# Altium footprint library CSD18543Q3A.PcbLib: 1 footprints
Each footprint in its own frame and in the unit in brackets; x right, y up, seen from the top. Pads: shape width x height; smd on the part's side, far side on the other; paste and mask are expansions set on the pad; w line width, h text height; cw(c..) or ccw(c..) is an arc to the next point about the centre after c.
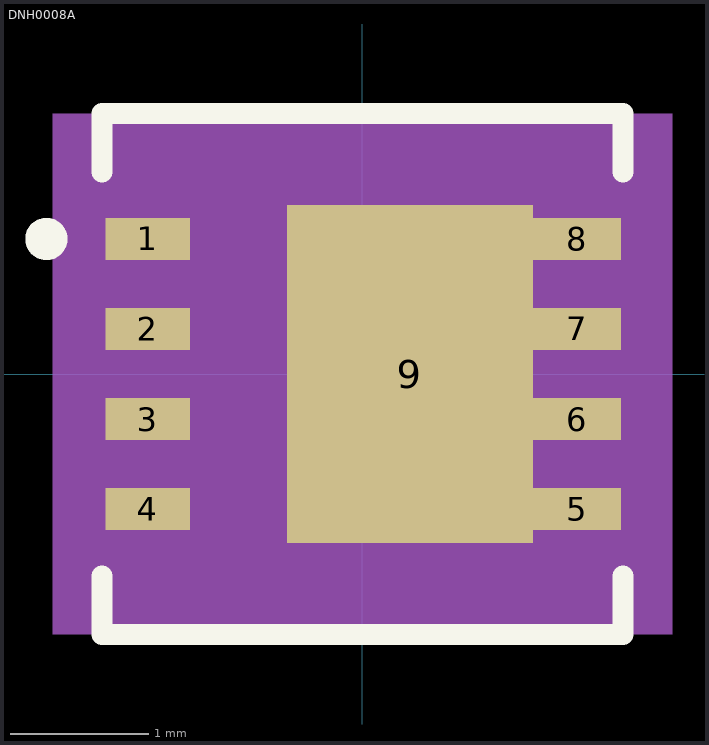
[diagram p0: the footprint, top view; thin cyan lines are the x and y axes]

## DNH0008A [mm]
pads (9):
  rect 0.61x0.305 smd paste-0.152: 1(-1.55,0.975) 2(-1.55,0.325) 3(-1.55,-0.325) 4(-1.55,-0.975)
  rect 0.635x0.305 smd paste+0 mask+0: 5(1.55,-0.975) 6(1.55,-0.325) 7(1.55,0.325) 8(1.55,0.975)
  rect 1.778x2.438 smd paste-1.206 mask-1.206: 9(0.343,0)
Top Layer:
  region: 0,1.219
  region: 0,-1.219
  region: 0,1.219
  region: 0,-1.219
Top Overlay:
  circle w0.152: c-2.281,0.975 r0.076
  circle w0.152: c-2.281,0.975 r0.076
  lines w0.152: -1.88,-1.88 1.88,-1.88 ; -1.88,-1.88 -1.88,-1.459 -1.88,-1.88 ; -1.88,-1.88 1.88,-1.88 ; -1.88,1.88 1.88,1.88 ; -1.88,1.88 -1.88,1.459 -1.88,1.88 ; -1.88,1.88 1.88,1.88 ; 1.88,-1.88 1.88,-1.459 1.88,-1.88 ; 1.88,1.88 1.88,1.459 1.88,1.88
Top Paste:
  drawing of 20 lines, arcs and shapes, not listed
Top Solder:
  region: -1.245,1.127 -1.855,1.127 -1.855,0.823 -1.245,0.823
  region: -1.245,0.477 -1.855,0.477 -1.855,0.173 -1.245,0.173
  region: -1.245,-0.173 -1.855,-0.173 -1.855,-0.477 -1.245,-0.477
  region: -1.245,-0.823 -1.855,-0.823 -1.855,-1.127 -1.245,-1.127
  region: 1.855,-0.823 1.245,-0.823 1.245,-1.127 1.855,-1.127
  region: 1.855,-0.173 1.245,-0.173 1.245,-0.477 1.855,-0.477
  region: 1.855,0.477 1.245,0.477 1.245,0.173 1.855,0.173
  region: 1.855,1.127 1.245,1.127 1.245,0.823 1.855,0.823
  region: -0.953,0.987 -0.953,1.283 0.953,1.283 0.953,0.987
  region: -0.953,0.2 -0.953,0.587 0.953,0.587 0.953,0.2
  region: -0.953,-0.587 -0.953,-0.2 0.953,-0.2 0.953,-0.587
  region: -0.953,-1.283 -0.953,-0.987 0.953,-0.987 0.953,-1.283
  region: -0.953,-1.283 -0.953,1.283 -0.594,1.283 -0.594,-1.283
  region: 0.194,-1.283 0.194,1.283 -0.194,1.283 -0.194,-1.283
  region: 0.594,-1.283 0.594,1.283 0.953,1.283 0.953,-1.283
  region: 0,1.219
  region: 0,-1.219
  region: 0,1.219
  region: 0,-1.219
Mechanical 5:
  region: 2.236,-1.88 -2.236,-1.88 -2.236,1.88 2.236,1.88
  region: 2.236,-1.88 -2.236,-1.88 -2.236,1.88 2.236,1.88
Mechanical 13:
  circle w0: c-1.245,0.975 r0.076
  circle w0: c-1.245,0.975 r0.076
  lines w0: -0.305,1.499 ccw(c0,1.499) 0.305,1.499 cw(c0,1.499) -0.305,1.499
  lines w0.025: -1.499,-1.499 1.499,-1.499 ; -1.499,-1.499 -1.499,1.499 ; -1.499,-1.499 1.499,-1.499 ; -1.499,-1.499 -1.499,1.499 ; -1.499,1.499 1.499,1.499 ; -1.499,1.499 1.499,1.499 ; 1.499,-1.499 1.499,1.499 ; 1.499,-1.499 1.499,1.499
Mechanical 15:
  region: -1.753,-1.351 -2.109,-1.351 -2.109,1.351 -1.753,1.351 -1.753,1.753 1.753,1.753 1.753,1.351 2.109,1.351 2.109,-1.351 1.753,-1.351 1.753,-1.753 -1.753,-1.753
  region: -1.753,-1.351 -2.109,-1.351 -2.109,1.351 -1.753,1.351 -1.753,1.753 1.753,1.753 1.753,1.351 2.109,1.351 2.109,-1.351 1.753,-1.351 1.753,-1.753 -1.753,-1.753
  lines w0.152: -2.109,-1.351 -2.109,1.351 ; -2.109,-1.351 -1.753,-1.351 ; -2.109,-1.351 -2.109,1.351 ; -2.109,-1.351 -1.753,-1.351 ; -2.109,1.351 -1.753,1.351 ; -2.109,1.351 -1.753,1.351 ; -1.753,-1.753 -1.753,-1.351 ; -1.753,-1.753 1.753,-1.753 ; -1.753,-1.753 -1.753,-1.351 ; -1.753,-1.753 1.753,-1.753 ; -1.753,1.351 -1.753,1.753 ; -1.753,1.351 -1.753,1.753 ; -1.753,1.753 1.753,1.753 ; -1.753,1.753 1.753,1.753 ; 1.753,-1.753 1.753,-1.351 ; 1.753,-1.753 1.753,-1.351 ; 1.753,-1.351 2.109,-1.351 ; 1.753,-1.351 2.109,-1.351 ; 1.753,1.351 2.109,1.351 ; 1.753,1.351 1.753,1.753 ; 1.753,1.351 2.109,1.351 ; 1.753,1.351 1.753,1.753 ; 2.109,-1.351 2.109,1.351 ; 2.109,-1.351 2.109,1.351
Mechanical 16:
  circle w0: c0.245,-0.975 r0.102
  circle w0: c-0.207,0 r0.102
  circle w0: c0.245,0.975 r0.102
  circle w0: c1.151,-0.975 r0.102
  circle w0: c1.604,0 r0.102
  circle w0: c1.151,0.975 r0.102
  circle w0: c0.699,0 r0.102
3D body: height 0.25, standoff 0, extent 0,0 0.254,0.254